# Altium footprint library F_SIBA_80x44x44_M.PcbLib: 1 footprints
Each footprint in its own frame and in the unit in brackets; x right, y up, seen from the top. Pads: shape width x height; smd on the part's side, far side on the other; paste and mask are expansions set on the pad; w line width, h text height; cw(c..) or ccw(c..) is an arc to the next point about the centre after c.
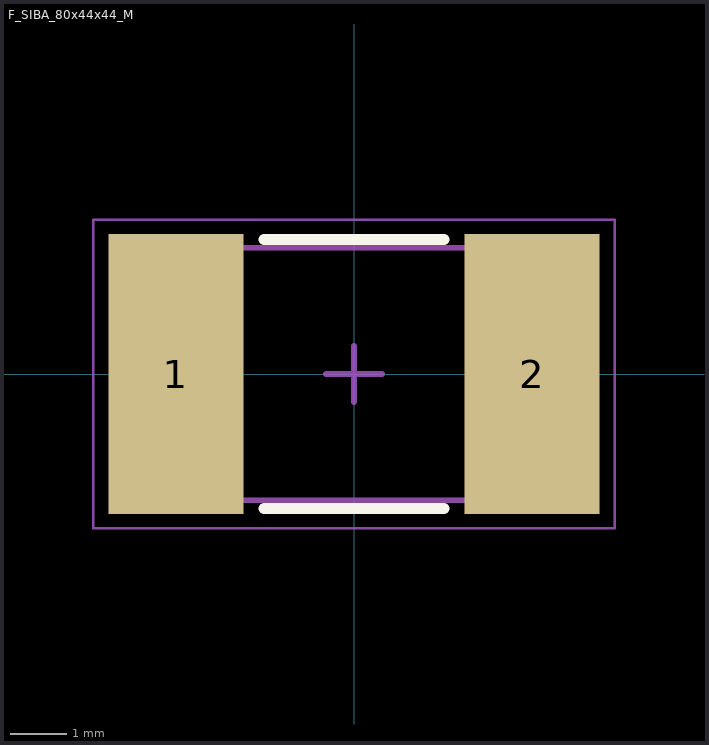
[diagram p0: the footprint, top view; thin cyan lines are the x and y axes]

## F_SIBA_80x44x44_M [mm] "Fuse, 2-Leads, Body 8,00x4,50mm, IPC Medium Density"
height 4.5
pads (2):
  rect 2.4x5 smd: 1(-3.175,0) 2(3.175,0)
Top Overlay:
  lines w0.2: -1.6,-2.4 1.6,-2.4 ; -1.6,2.4 1.6,2.4
Top Assembly:
  lines w0.1: -4,-2.25 4,-2.25 4,2.25 -4,2.25 -4,-2.25
Top Courtyard:
  lines w0.05: -4.65,-2.75 4.65,-2.75 4.65,2.75 -4.65,2.75 -4.65,-2.75
  lines w0.1: -0.5,0 0.5,0 ; 0,-0.5 0,0.5
3D body: height 4.5, standoff 0, extent -4,-2.25 -2,2.25
3D body: height 4.5, standoff 0, extent -2,-2.25 2,2.25
3D body: height 4.5, standoff 0, extent 2,-2.25 4,2.25